# Altium footprint library FTSH-110-04-F-DH.PcbLib: 1 footprints
Each footprint in its own frame and in the unit in brackets; x right, y up, seen from the top. Pads: shape width x height; smd on the part's side, far side on the other; paste and mask are expansions set on the pad; w line width, h text height; cw(c..) or ccw(c..) is an arc to the next point about the centre after c.
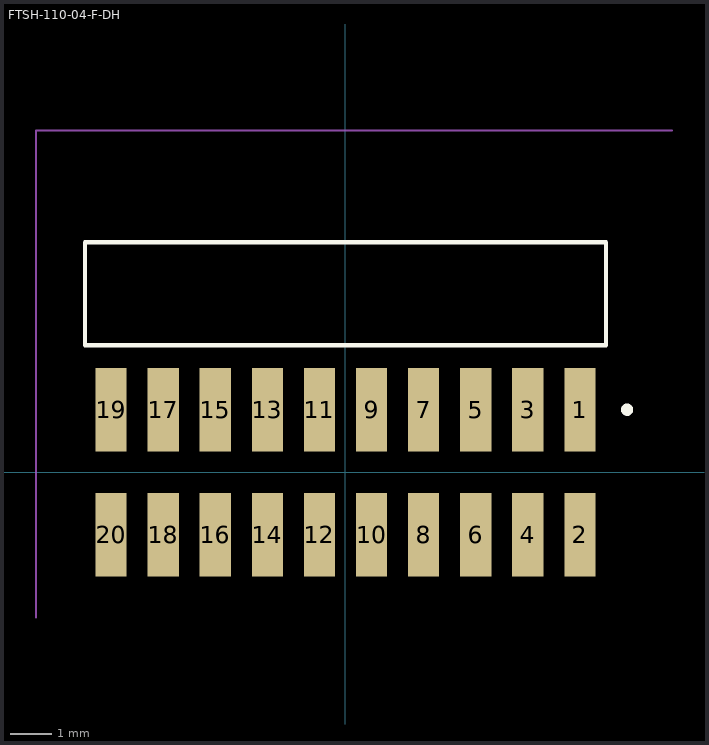
[diagram p0: the footprint, top view; thin cyan lines are the x and y axes]

## FTSH-110-04-F-DH [mm]
pads (20):
  rect 0.76x2.03 smd: 1(5.715,1.525) 2(5.715,-1.525) 3(4.445,1.525) 4(4.445,-1.525) 5(3.175,1.525) 6(3.175,-1.525) 7(1.905,1.525) 8(1.905,-1.525) 9(0.635,1.525) 10(0.635,-1.525) 11(-0.635,1.525) 12(-0.635,-1.525) 13(-1.905,1.525) 14(-1.905,-1.525) 15(-3.175,1.525) 16(-3.175,-1.525) 17(-4.445,1.525) 18(-4.445,-1.525) 19(-5.715,1.525) 20(-5.715,-1.525)
Top Overlay:
  circle w0.2: c6.865,1.525 r0.05
  lines w0.1: -6.35,3.096 6.35,3.096 6.35,5.606 -6.35,5.606 -6.35,3.096
Mechanical 15:
  lines w0.05: -7.55,-3.54 -7.55,8.33 7.965,8.33
3D body "FTSH-110-04-F-DH.stp": height 3.41, standoff -0.01, extent -6.35,-2.159 6.35,9.5